# Altium schematic symbol library NEC RF LIB.SchLib: 6 symbols
Pins are listed as number, name and electrical type; pins without a type are passive.

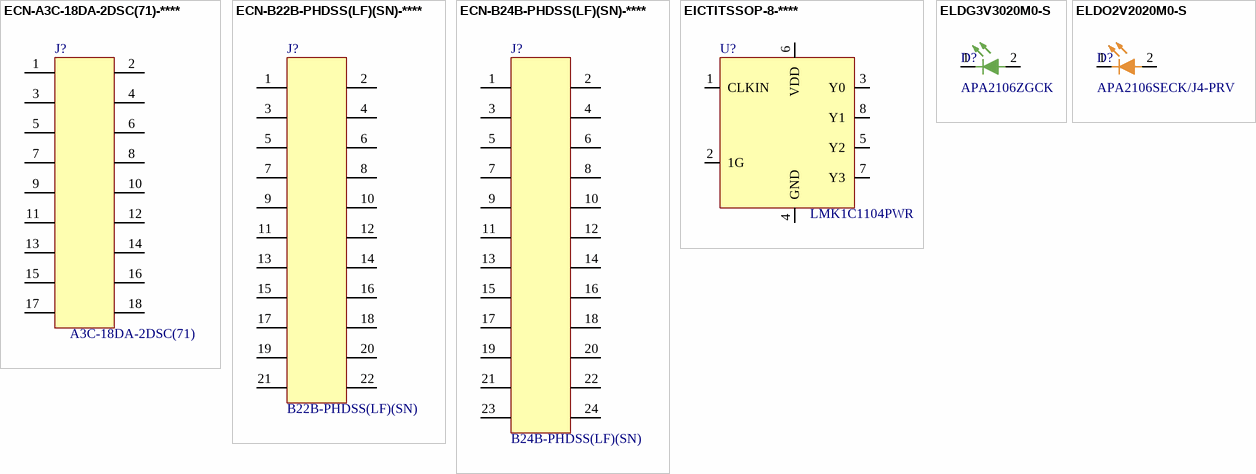
[diagram p0: symbols ECN-A3C-18DA-2DSC(71)-**** to ELDO2V2020M0-S]

## ECN-A3C-18DA-2DSC(71)-****
designator J?, comment value A3C-18DA-2DSC(71)  (hidden comment: CONN RCPT 18POS 0.079 GOLD PCB)
Vendor Part Number: H10911-ND; Manufacturer: Hirose Electric Co Ltd; Internal Part Number: ECN-A3C-18DA-2DSC(71)-****; 2nd Auxiliary Field: 2.00mm; 3rd Auxiliary Field: RoHS Compliant; Vendor Name: Digi-Key; Component Height (mm): 4.2mm; Temp Co: -55°C ~ 85°C; Part Type: CONN RCPT 18POS 0.079 GOLD PCB; 1st Auxiliary Field: 18 Pos; 4th Auxiliary Field: *; Manufacturer Part Number: A3C-18DA-2DSC(71)
footprint CONN_A3C-18DA-2DSC(71) (CONN RCPT 18POS 0.079 GOLD PCB)
pins: 1, 2, 3, 4, 5, 6, 7, 8, 9, 10, 11, 12, 13, 14, 15, 16 12, 17, 18

## ECN-B22B-PHDSS(LF)(SN)-****
designator J?, comment value B22B-PHDSS(LF)(SN)  (hidden comment: CONN HEADER VERT 22POS 2MM)
Vendor Part Number: 455-1768-ND; Manufacturer: JST Sales America Inc.; Internal Part Number: ECN-B22B-PHDSS(LF)(SN)-****; 2nd Auxiliary Field: 2.00mm; 3rd Auxiliary Field: RoHS Compliant; Vendor Name: Digi-Key; Component Height (mm): 6.50mm; Temp Co: -25°C ~ 85°C; Part Type: CONN HEADER VERT 22POS 2MM; 1st Auxiliary Field: 22 Pos; 4th Auxiliary Field: *; Manufacturer Part Number: B22B-PHDSS(LF)(SN)
footprint JST_B22B-PHDSS(LF)(SN) (CONN HEADER VERT 22POS 2MM)
pins: 1, 2, 3, 4, 5, 6, 7, 8, 9, 10, 11, 12, 13, 14, 15, 16, 17, 18, 19, 20, 21, 22

## ECN-B24B-PHDSS(LF)(SN)-****
designator J?, comment value B24B-PHDSS(LF)(SN)  (hidden comment: CONN HEADER VERT 24POS 2MM)
Vendor Part Number: 455-1769-ND; Manufacturer: JST Sales America Inc.; Internal Part Number: ECN-B24B-PHDSS(LF)(SN)-****; 2nd Auxiliary Field: 2.00mm; 3rd Auxiliary Field: RoHS Compliant; Vendor Name: Digi-Key; Component Height (mm): 6.50mm; Temp Co: -25°C ~ 85°C; Part Type: CONN HEADER VERT 24POS 2MM; 1st Auxiliary Field: 24 Pos; 4th Auxiliary Field: *; Manufacturer Part Number: B24B-PHDSS(LF)(SN)
footprint JST_B24B-PHDSS(LF)(SN)
footprint JST_S24B-PHDSS
pins: 1, 2, 3, 4, 5, 6, 7, 8, 9, 10, 11, 12, 13, 14, 15, 16, 17, 18, 19, 20, 21, 22, 23, 24

## EICTITSSOP-8-****
designator U?, comment value LMK1C1104PWR  (hidden comment: LVCMOS BUFFER 4-CHANNEL)
Manufacturer: Texas Instruments; Internal Part Number: EICTITSSOP-8-****; Vendor Part Number: 296-LMK1C1104PWRCT-ND; Component Height (mm): 1.2mm; 3rd Auxiliary Field: RoHS  Compliant; Vendor Name: Digi-Key; 1st Auxiliary Field: 1.71V, 2.375V, 3.135V ~ 1.89V, 2.625V, 3.465V; 2nd Auxiliary Field: 250MHz; Temp Co: -40°C ~ 125°C; Manufacturer Part Number: LMK1C1104PWR; Part Type: LVCMOS BUFFER 4-CHANNEL; 4th Auxiliary Field: *
footprint TSOP65P640X120-8N (TSOP, 8-Leads, Body 3.00x4.40mm, Pitch 0.65mm, IPC Medium Density)
pins: 1 CLKIN, 2 1G, 3 Y0, 4 GND (power), 5 Y2, 6 VDD (power), 7 Y3, 8 Y1

## ELDG3V3020M0-S
designator D?, comment value APA2106ZGCK  (hidden comment: LED GREEN CLEAR SMD R/A)
Manufacturer: Kingbright; Vendor Part Number: 754-1780-1-ND; Internal Part Number: ELEDGREEN_1; 1st Auxiliary Field: 3.3V; 2nd Auxiliary Field: 20mA; Vendor Name: Digi-Key; Component Height (mm): 0.60 mm; Manufacturer Part Number: APA2106ZGCK; 3rd Auxiliary Field: *; 4th Auxiliary Field: *; Part Type: LED GREEN CLEAR SMD R/A; Temp Co: *
footprint LED_APA2106SECK/J4-PRV (LED ORANGE CLEAR SMD R/A)
pins: 1 K, 2 A

## ELDO2V2020M0-S
designator D?, comment value APA2106SECK/J4-PRV  (hidden comment: LED ORANGE CLEAR SMD R/A)
Manufacturer: Kingbright; Vendor Part Number: 754-1777-1-ND; Internal Part Number: ELD2V2020M0-S; 1st Auxiliary Field: 2.2V; 2nd Auxiliary Field: 20mA; Temp Co: -40°C To +85°C; Vendor Name: Digi-Key; Component Height (mm): 0.60 mm; Manufacturer Part Number: APA2106SECK/J4-PRV; 3rd Auxiliary Field: *; 4th Auxiliary Field: *; Part Type: LED ORANGE CLEAR SMD R/A
footprint LED_APA2106SECK/J4-PRV (LED ORANGE CLEAR SMD R/A)
pins: 1 K, 2 A